# EAGLE library part ATSAMD21J18A-AUT (library ATSam21)
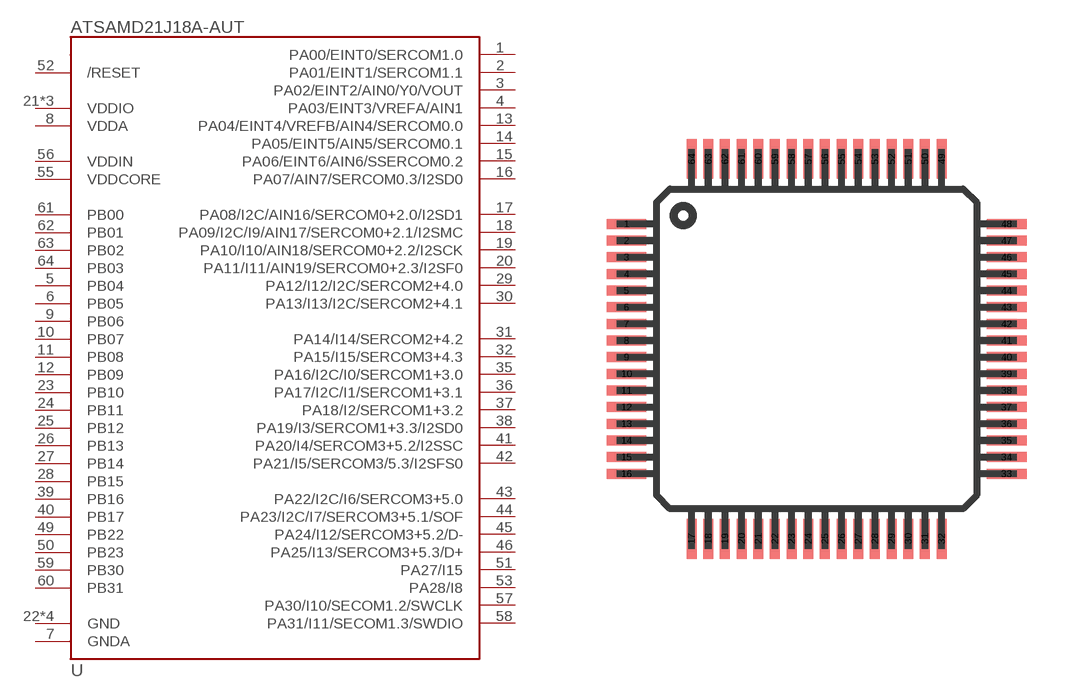
[diagram p0: symbol with the pads of TQFP64-10X10; footprint TQFP64-10X10]

Designator prefix -

## ATSAMD21J18A-AUT  [TQFP64-10X10]
1  PA00/EINT0/SERCOM1.0
2  PA01/EINT1/SERCOM1.1
3  PA02/EINT2/AIN0/Y0/VOUT
4  PA03/EINT3/VREFA/AIN1
5  PB04
6  PB05
7  GNDA
8  VDDA
9  PB06
10  PB07
11  PB08
12  PB09
13  PA04/EINT4/VREFB/AIN4/SERCOM0.0
14  PA05/EINT5/AIN5/SERCOM0.1
15  PA06/EINT6/AIN6/SSERCOM0.2
16  PA07/AIN7/SERCOM0.3/I2SD0
17  PA08/I2C/AIN16/SERCOM0+2.0/I2SD1
18  PA09/I2C/I9/AIN17/SERCOM0+2.1/I2SMC
19  PA10/I10/AIN18/SERCOM0+2.2/I2SCK
20  PA11/I11/AIN19/SERCOM0+2.3/I2SF0
21  VDDIO
22  GND
23  PB10
24  PB11
25  PB12
26  PB13
27  PB14
28  PB15
29  PA12/I12/I2C/SERCOM2+4.0
30  PA13/I13/I2C/SERCOM2+4.1
31  PA14/I14/SERCOM2+4.2
32  PA15/I15/SERCOM3+4.3
33  GND
34  VDDIO
35  PA16/I2C/I0/SERCOM1+3.0
36  PA17/I2C/I1/SERCOM1+3.1
37  PA18/I2/SERCOM1+3.2
38  PA19/I3/SERCOM1+3.3/I2SD0
39  PB16
40  PB17
41  PA20/I4/SERCOM3+5.2/I2SSC
42  PA21/I5/SERCOM3/5.3/I2SFS0
43  PA22/I2C/I6/SERCOM3+5.0
44  PA23/I2C/I7/SERCOM3+5.1/SOF
45  PA24/I12/SERCOM3+5.2/D-
46  PA25/I13/SERCOM3+5.3/D+
47  GND
48  VDDIO
49  PB22
50  PB23
51  PA27/I15
52  /RESET
53  PA28/I8
54  GND
55  VDDCORE
56  VDDIN
57  PA30/I10/SECOM1.2/SWCLK
58  PA31/I11/SECOM1.3/SWDIO
59  PB30
60  PB31
61  PB00
62  PB01
63  PB02
64  PB03

## Footprint TQFP64-10X10 (pad centres in mm)
Thin Quad Flat Pack package type TQ
smd 1.2 x 0.3: 1 -5.7,3.75; 2 -5.7,3.25; 3 -5.7,2.75; 4 -5.7,2.25; 5 -5.7,1.75; 6 -5.7,1.25; 7 -5.7,0.75; 8 -5.7,0.25; 9 -5.7,-0.25; 10 -5.7,-0.75; 11 -5.7,-1.25; 12 -5.7,-1.75; 13 -5.7,-2.25; 14 -5.7,-2.75; 15 -5.7,-3.25; 16 -5.7,-3.75; 33 5.7,-3.75; 34 5.7,-3.25; 35 5.7,-2.75; 36 5.7,-2.25; 37 5.7,-1.75; 38 5.7,-1.25; 39 5.7,-0.75; 40 5.7,-0.25; 41 5.7,0.25; 42 5.7,0.75; 43 5.7,1.25; 44 5.7,1.75; 45 5.7,2.25; 46 5.7,2.75; 47 5.7,3.25; 48 5.7,3.75
smd 0.3 x 1.2: 17 -3.75,-5.7; 18 -3.25,-5.7; 19 -2.75,-5.7; 20 -2.25,-5.7; 21 -1.75,-5.7; 22 -1.25,-5.7; 23 -0.75,-5.7; 24 -0.25,-5.7; 25 0.25,-5.7; 26 0.75,-5.7; 27 1.25,-5.7; 28 1.75,-5.7; 29 2.25,-5.7; 30 2.75,-5.7; 31 3.25,-5.7; 32 3.75,-5.7; 49 3.75,5.7; 50 3.25,5.7; 51 2.75,5.7; 52 2.25,5.7; 53 1.75,5.7; 54 1.25,5.7; 55 0.75,5.7; 56 0.25,5.7; 57 -0.25,5.7; 58 -0.75,5.7; 59 -1.25,5.7; 60 -1.75,5.7; 61 -2.25,5.7; 62 -2.75,5.7; 63 -3.25,5.7; 64 -3.75,5.7